# Altium footprint library 635Connector4x1.PcbLib: 1 footprints
Each footprint in its own frame and in the unit in brackets; x right, y up, seen from the top. Pads: shape width x height; smd on the part's side, far side on the other; paste and mask are expansions set on the pad; w line width, h text height; cw(c..) or ccw(c..) is an arc to the next point about the centre after c.
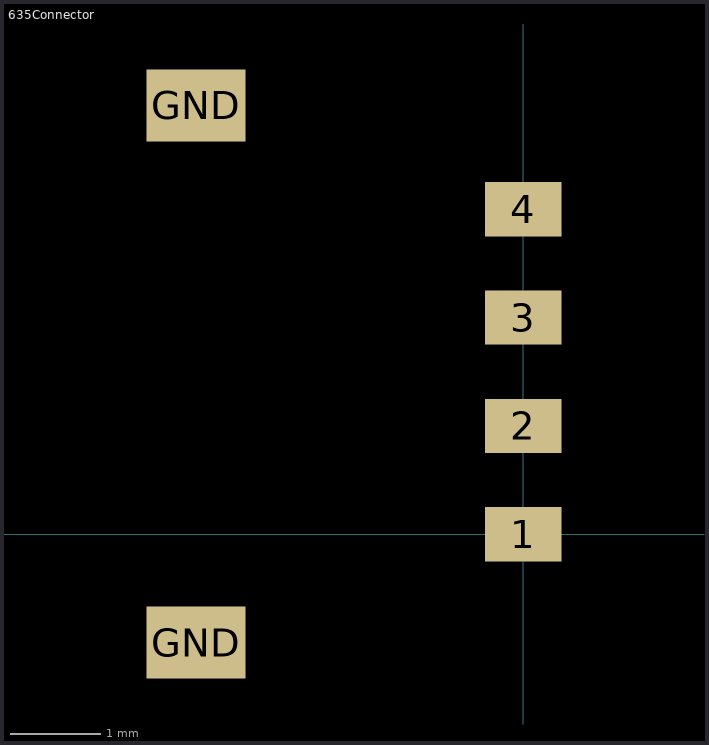
[diagram p0: the footprint, top view; thin cyan lines are the x and y axes]

## 635Connector [mm]
pads (6):
  rect 0.85x0.6 smd mask+0.05: 1(0,0) 2(0,1.2) 3(0,2.4) 4(0,3.6)
  rect 1.1x0.8 smd mask+0.05: GND(-3.625,-1.2) GND(-3.625,4.75)
3D body: height 2.7, standoff 0, extent -5.25,-1.875 0.875,5.525